# EAGLE library part ATMEGAXU2 (library Transistorlabs)
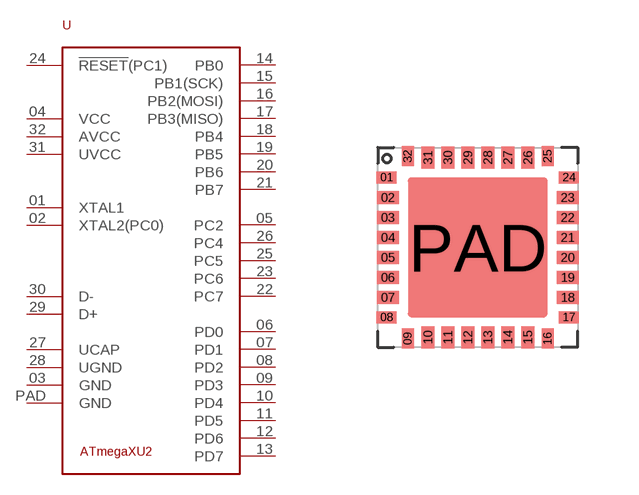
[diagram p2: symbol with the pads of QFN32; footprint QFN32]

Designator prefix -

## ATMEGAXU2  [QFN32]
01  XTAL1
02  XTAL2(PC0)
03  GND  pwr
04  VCC  pwr
05  PC2
06  PD0
07  PD1
08  PD2
09  PD3
10  PD4
11  PD5
12  PD6
13  PD7
14  PB0
15  PB1(SCK)
16  PB2(MOSI)
17  PB3(MISO)
18  PB4
19  PB5
20  PB6
21  PB7
22  PC7
23  PC6
24  !RESET!(PC1)
25  PC5
26  PC4
27  UCAP
28  UGND  pwr
29  D+
30  D-
31  UVCC  pwr
32  AVCC  pwr
PAD  GND  pwr

## Footprint QFN32 (pad centres in mm)
QFN-32
smd 0.5 x 0.3: 01 -2.28,1.75; 08 -2.28,-1.75; 17 2.28,-1.75; 24 2.28,1.75
smd 0.55 x 0.325: 02 -2.25,1.25; 03 -2.25,0.75; 04 -2.25,0.25; 05 -2.25,-0.25; 06 -2.25,-0.75; 07 -2.25,-1.25; 18 2.25,-1.25; 19 2.25,-0.75; 20 2.25,-0.25; 21 2.25,0.25; 22 2.25,0.75; 23 2.25,1.25
smd 0.3 x 0.5: 09 -1.75,-2.28; 16 1.75,-2.28; 25 1.75,2.28; 32 -1.75,2.28
smd 0.325 x 0.55: 10 -1.25,-2.25; 11 -0.75,-2.25; 12 -0.25,-2.25; 13 0.25,-2.25; 14 0.75,-2.25; 15 1.25,-2.25; 26 1.25,2.25; 27 0.75,2.25; 28 0.25,2.25; 29 -0.25,2.25; 30 -0.75,2.25; 31 -1.25,2.25
smd 3.5 x 3.5: PAD 0,0